# Altium integrated library Altera Cyclone IV GX update.IntLib: 117 symbols (part 31 of 38)
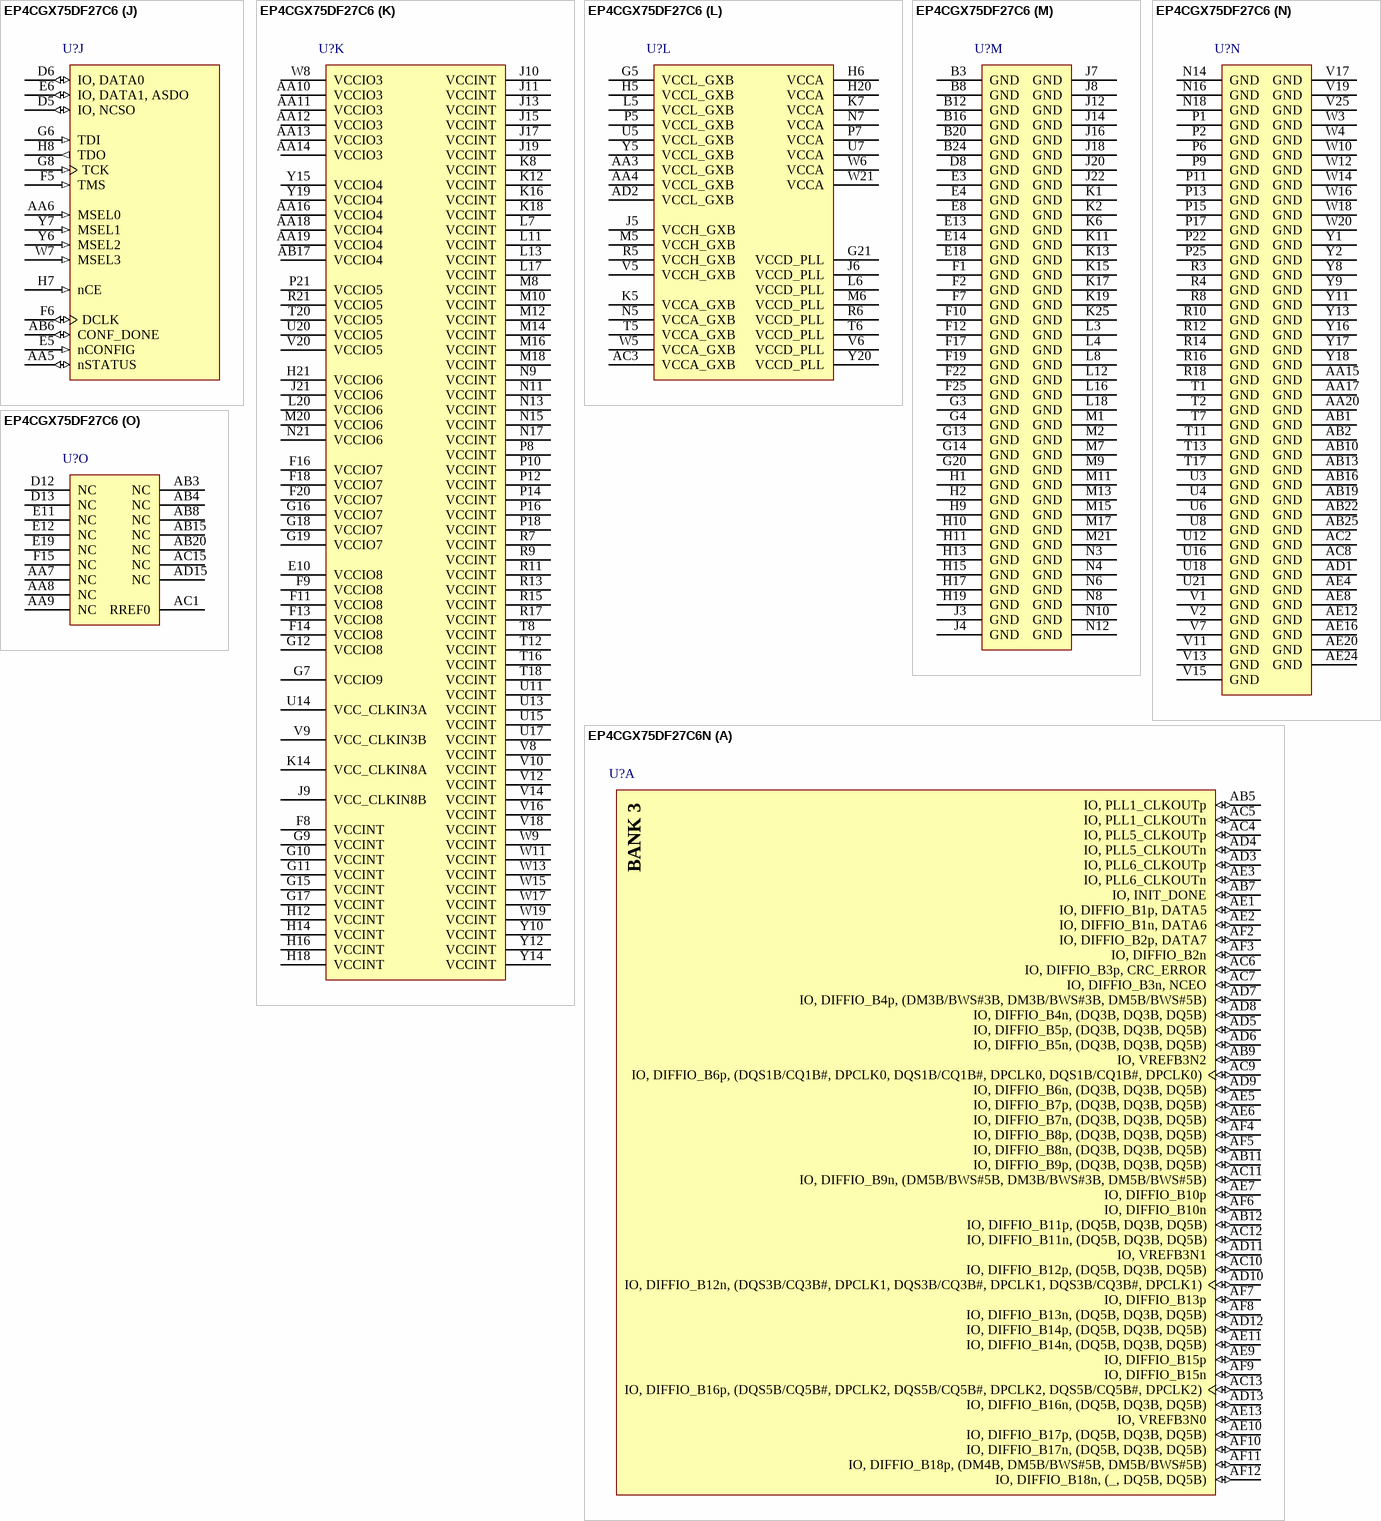
[diagram p366: symbols EP4CGX75DF27C6 to EP4CGX75DF27C6N]

## EP4CGX75DF27C6
designator U?
Cyclone IV Family FPGA, 1.2 V Core, 310 I/O Pins, 8 PLLs, 8 High-Speed Transceivers, 672-Pin FBGA, Speed Grade 6, Commercial Grade; Manufacturer: Altera; Device Group: EP4CGX75; GPIO: 310; Logic Elements (LE) (K): 73.92; NexusDeviceID: EP4CGX75DF27C6; Speed Grade: 6; DatasheetVersion: Rev. 1.8; PackageVersion: Rev. 2.0, 12/2013; PackageReference: FBGA672_A-240; PackageDescription: 672-Pin FineLine Ball-Grid Array (FBGA), Body 27 x 27 mm, Pitch 1 mm; Supplier 1: Digi-Key; Supplier Part Number 1: EP4CGX75DF27C6-ND; Supplier 2: Mouser; Supplier Part Number 2: 989-EP4CGX75DF27C6; Subcategory: Cyclone IV GX; Voltage Supply: 1.2 V Core; Mounting Technology: Surface Mount; Code_JEDEC: MS-034; PartNumber: EP4CGX75DF27C6; ComponentLink1Description: Manufacturer URL; ComponentLink1URL: http://www.altera.com/; ComponentLink2Description: Datasheet; ComponentLink2URL: http://www.altera.com/literature/hb/cyclone-iv/cyiv-53001.pdf; ComponentLink3Description: Package Specification; ComponentLink3URL: http://www.altera.com/devicepackaging/04R00419-02.pdf; ComponentLink4Description: Device Handbook URL; ComponentLink4URL: http://www.altera.com/literature/hb/cyclone-iv/cyclone4-handbook.pdf; ComponentLink5Description: Device Overview URL; ComponentLink5URL: http://www.altera.com/literature/hb/cyclone-iv/cyiv-51001.pdf; ComponentLink6Description: Device Pin-Out URL; ComponentLink6URL: http://www.altera.com/literature/dp/cyclone-iv/EP4CGX75.xls; ComponentLink7Description: Product URL; ComponentLink7URL: http://www.buyaltera.com/scripts/partsearch.dll?Detail&name=EP4CGX75DF27C6-ND
footprint ALTR-FBGA672_A-240 (BGA, 672-Balls, Body 27x27mm, Pitch 1mm)
part A pins: AB5 IO, PLL1_CLKOUTp (io), AB7 IO, INIT_DONE (io), AB9 IO, VREFB3N2 (io), AB11 IO, DIFFIO_B9p, (DQ3B, DQ3B, DQ5B) (io), AB12 IO, DIFFIO_B11p, (DQ5B, DQ3B, DQ5B) (io), AC4 IO, PLL5_CLKOUTp (io), AC5 IO, PLL1_CLKOUTn (io), AC6 IO, DIFFIO_B3p, CRC_ERROR (io), AC7 IO, DIFFIO_B3n, NCEO (io), AC9 IO, DIFFIO_B6p, (DQS1B/CQ1B#, DPCLK0, DQS1B/CQ1B#, DPCLK0, DQS1B/CQ1B#, DPCLK0) (io), AC10 IO, DIFFIO_B12p, (DQ5B, DQ3B, DQ5B) (io), AC11 IO, DIFFIO_B9n, (DM5B/BWS#5B, DM3B/BWS#3B, DM5B/BWS#5B) (io), AC12 IO, DIFFIO_B11n, (DQ5B, DQ3B, DQ5B) (io), AC13 IO, DIFFIO_B16p, (DQS5B/CQ5B#, DPCLK2, DQS5B/CQ5B#, DPCLK2, DQS5B/CQ5B#, DPCLK2) (io), AD3 IO, PLL6_CLKOUTp (io), AD4 IO, PLL5_CLKOUTn (io), AD5 IO, DIFFIO_B5p, (DQ3B, DQ3B, DQ5B) (io), AD6 IO, DIFFIO_B5n, (DQ3B, DQ3B, DQ5B) (io), AD7 IO, DIFFIO_B4p, (DM3B/BWS#3B, DM3B/BWS#3B, DM5B/BWS#5B) (io), AD8 IO, DIFFIO_B4n, (DQ3B, DQ3B, DQ5B) (io), AD9 IO, DIFFIO_B6n, (DQ3B, DQ3B, DQ5B) (io), AD10 IO, DIFFIO_B12n, (DQS3B/CQ3B#, DPCLK1, DQS3B/CQ3B#, DPCLK1, DQS3B/CQ3B#, DPCLK1) (io), AD11 IO, VREFB3N1 (io), AD12 IO, DIFFIO_B14p, (DQ5B, DQ3B, DQ5B) (io), AD13 IO, DIFFIO_B16n, (DQ5B, DQ3B, DQ5B) (io), AE1 IO, DIFFIO_B1p, DATA5 (io), AE2 IO, DIFFIO_B1n, DATA6 (io), AE3 IO, PLL6_CLKOUTn (io), AE5 IO, DIFFIO_B7p, (DQ3B, DQ3B, DQ5B) (io), AE6 IO, DIFFIO_B7n, (DQ3B, DQ3B, DQ5B) (io), AE7 IO, DIFFIO_B10p (io), AE9 IO, DIFFIO_B15p (io), AE10 IO, DIFFIO_B17p, (DQ5B, DQ3B, DQ5B) (io), AE11 IO, DIFFIO_B14n, (DQ5B, DQ3B, DQ5B) (io), AE13 IO, VREFB3N0 (io), AF2 IO, DIFFIO_B2p, DATA7 (io), AF3 IO, DIFFIO_B2n (io), AF4 IO, DIFFIO_B8p, (DQ3B, DQ3B, DQ5B) (io), AF5 IO, DIFFIO_B8n, (DQ3B, DQ3B, DQ5B) (io), AF6 IO, DIFFIO_B10n (io), AF7 IO, DIFFIO_B13p (io), AF8 IO, DIFFIO_B13n, (DQ5B, DQ3B, DQ5B) (io), AF9 IO, DIFFIO_B15n (io), AF10 IO, DIFFIO_B17n, (DQ5B, DQ3B, DQ5B) (io), AF11 IO, DIFFIO_B18p, (DM4B, DM5B/BWS#5B, DM5B/BWS#5B) (io), AF12 IO, DIFFIO_B18n, (_, DQ5B, DQ5B) (io)
part B pins: AA21 IO, PLL3_CLKOUTp (io), AA22 IO, RDN2 (io), AB14 IO, VREFB4N2 (io), AB18 IO, VREFB4N1 (io), AB21 IO, PLL3_CLKOUTn (io), AC14 IO, DIFFIO_B19p, (DQ4B, DQ5B, DQ5B) (io), AC16 IO, DIFFIO_B22p, (DQ4B, DQ5B, DQ5B) (io), AC17 IO, DIFFIO_B23p, (DQ4B, DQ5B, DQ5B) (io), AC18 IO, DIFFIO_B26p, (DQ2B, DQ5B, DQ5B) (io), AC19 IO, DIFFIO_B27p, (DQS2B/CQ3B, DPCLK4, DQS2B/CQ3B, DPCLK4, DQS2B/CQ3B, DPCLK4) (io), AC20 IO, VREFB4N0 (io), AC21 IO, DIFFIO_B35p, (_, DQ5B, DQ5B) (io), AC22 IO, DIFFIO_B34p (io), AD14 IO, DIFFIO_B19n, (DQS4B/CQ5B, DPCLK3, DQS4B/CQ5B, DPCLK3, DQS4B/CQ5B, DPCLK3) (io), AD16 IO, DIFFIO_B22n, (DQ4B, DQ5B, DQ5B) (io), AD17 IO, DIFFIO_B23n, (DM2B, DM5B/BWS#5B, DM5B/BWS#5B) (io), AD18 IO, DIFFIO_B26n, (DQ2B, DQ5B, DQ5B) (io), AD19 IO, DIFFIO_B27n (io), AD20 IO, DIFFIO_B30p, (DQ2B, DQ5B, DQ5B) (io), AD21 IO, DIFFIO_B35n, (DQ2B, DQ5B, DQ5B) (io), AD22 IO, DIFFIO_B34n, (DQS0B/CQ1B, DPCLK5, DQS0B/CQ1B, DPCLK5, DQS0B/CQ1B, DPCLK5) (io), AD23 IO, DIFFIO_B36p (io), AD24 IO, DIFFIO_B36n (io), AE14 IO, DIFFIO_B20p, (DQ4B, DQ5B, DQ5B) (io), AE15 IO, DIFFIO_B20n, (DQ4B, DQ5B, DQ5B) (io), AE17 IO, DIFFIO_B24p (io), AE18 IO, DIFFIO_B25p (io), AE19 IO, DIFFIO_B28p (io), AE21 IO, DIFFIO_B30n (io), AE22 IO, DIFFIO_B31p (io), AE23 IO, DIFFIO_B32p (io), AF15 IO, DIFFIO_B21p, (DQ4B, DQ5B, DQ5B) (io), AF16 IO, DIFFIO_B21n, (DQ4B, DQ5B, DQ5B) (io), AF17 IO, DIFFIO_B24n, (DQ2B, DQ5B, DQ5B) (io), AF18 IO, DIFFIO_B25n (io), AF19 IO, DIFFIO_B28n, (DQ2B, DQ5B, DQ5B) (io), AF20 IO, DIFFIO_B29p, (DQ2B, DQ5B, DQ5B) (io), AF21 IO, DIFFIO_B29n, (DQ2B, DQ5B, DQ5B) (io), AF22 IO, DIFFIO_B31n (io), AF23 IO, DIFFIO_B32n (io), AF24 IO, DIFFIO_B33p (io), AF25 IO, DIFFIO_B33n (io), Y21 IO, RUP2 (io)
part C pins: AA23 IO, DIFFIO_R49p, (DQS5R/CQ5R#, DPCLK6, DQS5R/CQ5R#, DPCLK6, DQS5R/CQ5R#, DPCLK6) (io), AA24 IO, DIFFIO_R49n, (DM3R/BWS#3R, DM3R/BWS#3R, DM1R/BWS#1R) (io), AA25 IO, DIFFIO_R40p, (DQS3R/CQ3R#, DPCLK7, DQS3R/CQ3R#, DPCLK7, DQS3R/CQ3R#, DPCLK7) (io), AA26 IO, DIFFIO_R37p (io), AB23 IO, DIFFIO_R48p (io), AB24 IO, DIFFIO_R48n (io), AB26 IO, DIFFIO_R40n (io), AC23 IO, DIFFIO_R47p, (DQ3R, DQ3R, DQ1R) (io), AC24 IO, DIFFIO_R47n, (DQ3R, DQ3R, DQ1R) (io), AC25 IO, DIFFIO_R41p, (DQ3R, DQ3R, DQ1R) (io), AC26 IO, DIFFIO_R41n, (DQ3R, DQ3R, DQ1R) (io), AD25 IO, DIFFIO_R45p, (DQ3R, DQ3R, DQ1R) (io), AD26 IO, DIFFIO_R45n, (DQ3R, DQ3R, DQ1R) (io), AE25 IO, DIFFIO_R46p (io), AE26 IO, DIFFIO_R46n (io), P19 IO, DIFFIO_R27p (io), P20 IO, DIFFIO_R27n (io), P23 IO, DIFFIO_R26p, (DQ1R, DQ3R, DQ1R) (io), P24 IO, DIFFIO_R26n, (DQ1R, DQ3R, DQ1R) (io), R19 IO, DIFFIO_R30p, (DQS1R/CQ1R#, DPCLK8, DQS1R/CQ1R#, DPCLK8, DQS1R/CQ1R#, DPCLK8) (io), R20 IO, DIFFIO_R30n (io), R22 IO, DIFFIO_R28p (io), R23 IO, DIFFIO_R28n (io), R24 IO, VREFB5N0 (io), R25 IO, DIFFIO_R29p, (DQ1R, DQ3R, DQ1R) (io), T19 IO, DIFFIO_R36n (io), T21 IO, DIFFIO_R39p, (DM1R/BWS#1R, DM3R/BWS#3R, DM1R/BWS#1R) (io), T22 IO, DIFFIO_R33p (io), T23 IO, DIFFIO_R33n, (DQ1R, DQ3R, DQ1R) (io), T24 IO, DIFFIO_R31p, (DQ1R, DQ3R, DQ1R) (io), T25 IO, DIFFIO_R31n (io), T26 IO, DIFFIO_R29n, (DQ1R, DQ3R, DQ1R) (io), U19 IO, DIFFIO_R36p (io), U22 IO, DIFFIO_R39n (io), U23 IO, DIFFIO_R43n, (DQ3R, DQ3R, DQ1R) (io), U24 IO, VREFB5N1 (io), U25 IO, DIFFIO_R32p, (DQ1R, DQ3R, DQ1R) (io), U26 IO, DIFFIO_R32n (io), V21 IO, DIFFIO_R44p, DEV_CLRn (io), V22 IO, DIFFIO_R43p, (DQ3R, DQ3R, DQ1R) (io), V23 IO, DIFFIO_R42p (io), V24 IO, DIFFIO_R42n, (DQ3R, DQ3R, DQ1R) (io), V26 IO, DIFFIO_R34n, (DQ1R, DQ3R, DQ1R) (io), W22 IO, DIFFIO_R44n, DEV_OE (io), W23 IO, VREFB5N2 (io), W24 IO, DIFFIO_R35p (io), W25 IO, DIFFIO_R35n (io), W26 IO, DIFFIO_R34p (io), Y22 IO, RUP3 (io), Y23 IO, RDN3 (io), Y24 IO, DIFFIO_R38p, (DQ1R, DQ3R, DQ1R) (io), Y25 IO, DIFFIO_R38n (io), Y26 IO, DIFFIO_R37n (io)
part D pins: B25 IO, DIFFIO_R3p, (DQ2R, DQ1R, DQ1R) (io), B26 IO, DIFFIO_R3n, (DQ2R, DQ1R, DQ1R) (io), C24 IO, DIFFIO_R2n (io), C25 IO, DIFFIO_R4p (io), C26 IO, DIFFIO_R4n (io), D24 IO, DIFFIO_R2p, (DQS4R/CQ5R, DPCLK11, DQS4R/CQ5R, DPCLK11, DQS4R/CQ5R, DPCLK11) (io), D25 IO, DIFFIO_R9p (io), D26 IO, DIFFIO_R9n, (DQS2R/CQ3R, DPCLK10, DQS2R/CQ3R, DPCLK10, DQS2R/CQ3R, DPCLK10) (io), E24 IO, DIFFIO_R5n (io), E25 IO, DIFFIO_R10p, (DQ2R, DQ1R, DQ1R) (io), E26 IO, DIFFIO_R10n, (DQ2R, DQ1R, DQ1R) (io), F21 IO, DIFFIO_R1p (io), F23 IO, DIFFIO_R6p (io), F24 IO, DIFFIO_R5p (io), F26 IO, DIFFIO_R12n (io), G22 IO, DIFFIO_R1n (io), G23 IO, VREFB6N0 (io), G24 IO, DIFFIO_R6n (io), G25 IO, DIFFIO_R8n (io), G26 IO, DIFFIO_R12p, (DQ2R, DQ1R, DQ1R) (io), H22 IO, DIFFIO_R7p (io), H23 IO, DIFFIO_R7n (io), H24 IO, DIFFIO_R8p (io), H25 IO, DIFFIO_R14p, (DM2R, DM1R/BWS#1R, DM1R/BWS#1R) (io), H26 IO, DIFFIO_R14n (io), J23 IO, DIFFIO_R11n, (DQ2R, DQ1R, DQ1R) (io), J24 IO, VREFB6N1 (io), J25 IO, DIFFIO_R15n (io), J26 IO, DIFFIO_R17p (io), K20 IO, DIFFIO_R16p (io), K21 IO, DIFFIO_R13p, (DQ2R, DQ1R, DQ1R) (io), K22 IO, DIFFIO_R13n, (_, DQ1R, DQ1R) (io), K23 IO, DIFFIO_R11p, (DQ2R, DQ1R, DQ1R) (io), K24 IO, DIFFIO_R15p, (_, DQ1R, DQ1R) (io), K26 IO, DIFFIO_R17n (io), L19 IO, DIFFIO_R22n, (DQS0R/CQ1R, DPCLK9, DQS0R/CQ1R, DPCLK9, DQS0R/CQ1R, DPCLK9) (io), L21 IO, DIFFIO_R16n, (DQ0R, DQ1R, DQ1R) (io), L22 IO, DIFFIO_R20n (io), L23 IO, DIFFIO_R18p, (DQ0R, DQ1R, DQ1R) (io), L24 IO, DIFFIO_R18n (io), L25 IO, DIFFIO_R19p, (DQ0R, DQ1R, DQ1R) (io), L26 IO, DIFFIO_R19n (io), M19 IO, DIFFIO_R22p (io), M22 IO, DIFFIO_R20p, (DQ0R, DQ1R, DQ1R) (io), M23 IO, VREFB6N2 (io), M24 IO, DIFFIO_R23n, (DQ0R, DQ1R, DQ1R) (io), M25 IO, DIFFIO_R21p, (DQ0R, DQ1R, DQ1R) (io), M26 IO, DIFFIO_R21n (io), N19 IO, DIFFIO_R25p, (DQ0R, DQ1R, DQ1R) (io), N20 IO, DIFFIO_R25n, (DM0R, DM1R/BWS#1R, DM1R/BWS#1R) (io), N22 IO, DIFFIO_R24p (io), N23 IO, DIFFIO_R24n (io), N24 IO, DIFFIO_R23p, (DQ0R, DQ1R, DQ1R) (io)
part E pins: A15 IO, DIFFIO_T22n, (DQ4T, DQ5T, DQ5T) (io), A16 IO, DIFFIO_T24n, (DQ4T, DQ5T, DQ5T) (io), A17 IO, DIFFIO_T24p (io), A18 IO, DIFFIO_T27n (io), A19 IO, DIFFIO_T27p, (DQS2T/CQ3T, DPCLK13, DQS2T/CQ3T, DPCLK13, DQS2T/CQ3T, DPCLK13) (io), A20 IO, DIFFIO_T30n (io), A21 IO, DIFFIO_T30p, (DQ2T, DQ5T, DQ5T) (io), A22 IO, DIFFIO_T31n, (DQ2T, DQ5T, DQ5T) (io), A23 IO, DIFFIO_T36n (io), A24 IO, DIFFIO_T35n, (DQS0T/CQ1T, DPCLK12, DQS0T/CQ1T, DPCLK12, DQS0T/CQ1T, DPCLK12) (io), A25 IO, DIFFIO_T35p, (DQ2T, DQ5T, DQ5T) (io), B15 IO, DIFFIO_T22p (io), B17 IO, DIFFIO_T23n, (DQ4T, DQ5T, DQ5T) (io), B18 IO, DIFFIO_T25n (io), B19 IO, DIFFIO_T29n (io), B21 IO, DIFFIO_T31p, (DQ2T, DQ5T, DQ5T) (io), B22 IO, DIFFIO_T33n, (DQ2T, DQ5T, DQ5T) (io), B23 IO, DIFFIO_T36p (io), C14 IO, DIFFIO_T20n, (_, DQ5T, DQ5T) (io), C15 IO, DIFFIO_T20p, (DM4T, DM5T/BWS#5T, DM5T/BWS#5T) (io), C16 IO, DIFFIO_T23p, (DQ4T, DQ5T, DQ5T) (io), C17 IO, DIFFIO_T25p, (DQ4T, DQ5T, DQ5T) (io), C18 IO, DIFFIO_T28n, (DM2T, DM5T/BWS#5T, DM5T/BWS#5T) (io), C19 IO, DIFFIO_T29p, (_, DQ5T, DQ5T) (io), C20 IO, DIFFIO_T32n, (DQ2T, DQ5T, DQ5T) (io), C21 IO, DIFFIO_T33p (io), C22 IO, DIFFIO_T37n, (DQ2T, DQ5T, DQ5T) (io), C23 IO (io), D15 IO, DIFFIO_T21n, (DQ4T, DQ5T, DQ5T) (io), D16 IO, VREFB7N2 (io), D17 IO, DIFFIO_T26n, (DQ4T, DQ5T, DQ5T) (io), D18 IO, DIFFIO_T28p (io), D19 IO, DIFFIO_T32p (io), D20 IO, DIFFIO_T34n (io), D21 IO, DIFFIO_T34p (io), D22 IO, DIFFIO_T37p, (DQ2T, DQ5T, DQ5T) (io), D23 IO, RDN4 (io), E15 IO, DIFFIO_T21p, (DQS4T/CQ5T, DPCLK14, DQS4T/CQ5T, DPCLK14, DQS4T/CQ5T, DPCLK14) (io), E16 IO, DIFFIO_T26p, (DQ4T, DQ5T, DQ5T) (io), E17 IO, VREFB7N1 (io), E20 IO, VREFB7N0 (io), E21 IO, PLL4_CLKOUTn (io), E22 IO, PLL4_CLKOUTp (io), E23 IO, RUP4 (io)
part F pins: A2 IO, DIFFIO_T8n, (DQ3T, DQ3T, DQ5T) (io), A3 IO, DIFFIO_T8p (io), A4 IO, DIFFIO_T10n, (DQS3T/CQ3T#, DPCLK16, DQS3T/CQ3T#, DPCLK16, DQS3T/CQ3T#, DPCLK16) (io), A5 IO, DIFFIO_T12n (io), A6 IO, DIFFIO_T14n, (DQ5T, DQ3T, DQ5T) (io), A7 IO, DIFFIO_T14p, (DQ5T, DQ3T, DQ5T) (io), A8 IO, DIFFIO_T15n, (DQ5T, DQ3T, DQ5T) (io), A9 IO, DIFFIO_T15p (io), A10 IO, DIFFIO_T16n, (DQ5T, DQ3T, DQ5T) (io), A11 IO, DIFFIO_T17n, (DQ5T, DQ3T, DQ5T) (io), A12 IO, DIFFIO_T19n, (DQS5T/CQ5T#, DPCLK15, DQS5T/CQ5T#, DPCLK15, DQS5T/CQ5T#, DPCLK15) (io), A13 IO, DIFFIO_T19p, (DQ5T, DQ3T, DQ5T) (io), B1 IO, DIFFIO_T5n (io), B2 IO, DIFFIO_T5p (io), B4 IO, DIFFIO_T10p, (DQ3T, DQ3T, DQ5T) (io), B5 IO, DIFFIO_T12p (io), B6 IO, DIFFIO_T11n, (DM5T/BWS#5T, DM3T/BWS#3T, DM5T/BWS#5T) (io), B7 IO, DIFFIO_T11p (io), B9 IO, DIFFIO_T9n (io), B10 IO, DIFFIO_T16p, (DQ5T, DQ3T, DQ5T) (io), B11 IO, DIFFIO_T17p, (DQ5T, DQ3T, DQ5T) (io), B13 IO, DIFFIO_T18n (io), C1 IO, PLL7_CLKOUTn (io), C2 IO, DIFFIO_T3n, (DQ3T, DQ3T, DQ5T) (io), C3 IO, DIFFIO_T4n, (DQ3T, DQ3T, DQ5T) (io), C4 IO, DIFFIO_T7n, (DQ3T, DQ3T, DQ5T) (io), C5 IO, DIFFIO_T7p (io), C6 IO, DIFFIO_T2n, DATA4, (DM3T/BWS#3T, DM3T/BWS#3T, DM5T/BWS#5T) (io), C7 IO, DIFFIO_T2p, DATA3 (io), C8 IO, DIFFIO_T1n, DATA2 (io), C9 IO, DIFFIO_T1p (io), C10 IO, DIFFIO_T9p, (DQ3T, DQ3T, DQ5T) (io), C11 IO, DIFFIO_T13n (io), C12 IO, DIFFIO_T13p, (DQ5T, DQ3T, DQ5T) (io), C13 IO, DIFFIO_T18p (io), D1 IO, PLL7_CLKOUTp (io), D2 IO, DIFFIO_T3p, (DQ3T, DQ3T, DQ5T) (io), D3 IO, DIFFIO_T4p, (DQ3T, DQ3T, DQ5T) (io), D4 IO, CLKUSR (io), D7 IO, PLL2_CLKOUTn (io), D9 IO, DIFFIO_T6n, (DQ3T, DQ3T, DQ5T) (io), D10 IO, DIFFIO_T6p, (DQS1T/CQ1T#, DPCLK17, DQS1T/CQ1T#, DPCLK17, DQS1T/CQ1T#, DPCLK17) (io), D11 IO, VREFB8N1 (io), D14 IO, VREFB8N0 (io), E1 IO, PLL8_CLKOUTn (io), E2 IO, PLL8_CLKOUTp (io), E7 IO, PLL2_CLKOUTp (io), E9 IO, VREFB8N2 (io)
part G pins: A14 CLKIO8, DIFFCLK_5n (in), AF13 CLKIO14, DIFFCLK_6p (in), AF14 CLKIO15, DIFFCLK_6n (in), B14 CLKIO9, DIFFCLK_5p (in), K9 REFCLK5n, DIFFCLK_9n (in), K10 REFCLK4n, DIFFCLK_8n (in), L9 REFCLK5p, DIFFCLK_9p, CLKIO19 (in), L10 REFCLK4p, DIFFCLK_8p, CLKIO17 (in), L14 CLKIO10, DIFFCLK_4n, REFCLK3n (in), L15 CLKIO11, DIFFCLK_4p, REFCLK3p (in), N25 CLKIO7, DIFFCLK_3p (in), N26 CLKIO6, DIFFCLK_3n (in), P26 CLKIO4, DIFFCLK_2n (in), R26 CLKIO5, DIFFCLK_2p (in), T9 REFCLK0p, DIFFCLK_0p, CLKIO20 (in), T10 REFCLK1p, DIFFCLK_1p, CLKIO22 (in), T14 CLKIO12, DIFFCLK_7p, REFCLK2p (in), T15 CLKIO13, DIFFCLK_7n, REFCLK2n (in), U9 REFCLK0n, DIFFCLK_0n (in), U10 REFCLK1n, DIFFCLK_1n (in)
part H pins: AA1 GXB_RX0n (in), AA2 GXB_RX0p (in), P3 GXB_TX3n (out), P4 GXB_TX3p (out), R1 GXB_RX3n (in), R2 GXB_RX3p (in), T3 GXB_TX2n (out), T4 GXB_TX2p (out), U1 GXB_RX2n (in), U2 GXB_RX2p (in), V3 GXB_TX1n (out), V4 GXB_TX1p (out), W1 GXB_RX1n (in), W2 GXB_RX1p (in), Y3 GXB_TX0n (out), Y4 GXB_TX0p (out)
part I pins: F3 GXB_TX7n (out), F4 GXB_TX7p (out), G1 GXB_RX7n (in), G2 GXB_RX7p (in), H3 GXB_TX6n (out), H4 GXB_TX6p (out), J1 GXB_RX6n (in), J2 GXB_RX6p (in), K3 GXB_TX5n (out), K4 GXB_TX5p (out), L1 GXB_RX5n (in), L2 GXB_RX5p (in), M3 GXB_TX4n (out), M4 GXB_TX4p (out), N1 GXB_RX4n (in), N2 GXB_RX4p (in)
part J pins: AA5 nSTATUS (io), AA6 MSEL0 (in), AB6 CONF_DONE (io), D5 IO, NCSO (io), D6 IO, DATA0 (io), E5 nCONFIG (in), E6 IO, DATA1, ASDO (io), F5 TMS (in), F6 DCLK (io), G6 TDI (in), G8 TCK (in), H7 nCE (in), H8 TDO (out), W7 MSEL3 (in), Y6 MSEL2 (in), Y7 MSEL1 (in)
part K pins: AA10 VCCIO3 (power), AA11 VCCIO3 (power), AA12 VCCIO3 (power), AA13 VCCIO3 (power), AA14 VCCIO3 (power), AA16 VCCIO4 (power), AA18 VCCIO4 (power), AA19 VCCIO4 (power), AB17 VCCIO4 (power), E10 VCCIO8 (power), F8 VCCINT (power), F9 VCCIO8 (power), F11 VCCIO8 (power), F13 VCCIO8 (power), F14 VCCIO8 (power), F16 VCCIO7 (power), F18 VCCIO7 (power), F20 VCCIO7 (power), G7 VCCIO9 (power), G9 VCCINT (power), G10 VCCINT (power), G11 VCCINT (power), G12 VCCIO8 (power), G15 VCCINT (power), G16 VCCIO7 (power), G17 VCCINT (power), G18 VCCIO7 (power), G19 VCCIO7 (power), H12 VCCINT (power), H14 VCCINT (power), H16 VCCINT (power), H18 VCCINT (power), H21 VCCIO6 (power), J9 VCC_CLKIN8B (power), J10 VCCINT (power), J11 VCCINT (power), J13 VCCINT (power), J15 VCCINT (power), J17 VCCINT (power), J19 VCCINT (power), J21 VCCIO6 (power), K8 VCCINT (power), K12 VCCINT (power), K14 VCC_CLKIN8A (power), K16 VCCINT (power), K18 VCCINT (power), L7 VCCINT (power), L11 VCCINT (power), L13 VCCINT (power), L17 VCCINT (power), L20 VCCIO6 (power), M8 VCCINT (power), M10 VCCINT (power), M12 VCCINT (power), M14 VCCINT (power), M16 VCCINT (power), M18 VCCINT (power), M20 VCCIO6 (power), N9 VCCINT (power), N11 VCCINT (power), N13 VCCINT (power), N15 VCCINT (power), N17 VCCINT (power), N21 VCCIO6 (power), P8 VCCINT (power), P10 VCCINT (power), P12 VCCINT (power), P14 VCCINT (power), P16 VCCINT (power), P18 VCCINT (power), P21 VCCIO5 (power), R7 VCCINT (power), R9 VCCINT (power), R11 VCCINT (power), R13 VCCINT (power), R15 VCCINT (power), R17 VCCINT (power), R21 VCCIO5 (power), T8 VCCINT (power), T12 VCCINT (power), T16 VCCINT (power), T18 VCCINT (power), T20 VCCIO5 (power), U11 VCCINT (power), U13 VCCINT (power), U14 VCC_CLKIN3A (power), U15 VCCINT (power), U17 VCCINT (power), U20 VCCIO5 (power), V8 VCCINT (power), V9 VCC_CLKIN3B (power), V10 VCCINT (power), V12 VCCINT (power), V14 VCCINT (power), V16 VCCINT (power), V18 VCCINT (power), V20 VCCIO5 (power), W8 VCCIO3 (power), W9 VCCINT (power), W11 VCCINT (power), W13 VCCINT (power), W15 VCCINT (power), W17 VCCINT (power), W19 VCCINT (power), Y10 VCCINT (power), Y12 VCCINT (power), Y14 VCCINT (power), Y15 VCCIO4 (power), Y19 VCCIO4 (power)
part L pins: AA3 VCCL_GXB (power), AA4 VCCL_GXB (power), AC3 VCCA_GXB (power), AD2 VCCL_GXB (power), G5 VCCL_GXB (power), G21 VCCD_PLL (power), H5 VCCL_GXB (power), H6 VCCA (power), H20 VCCA (power), J5 VCCH_GXB (power), J6 VCCD_PLL (power), K5 VCCA_GXB (power), K7 VCCA (power), L5 VCCL_GXB (power), L6 VCCD_PLL (power), M5 VCCH_GXB (power), M6 VCCD_PLL (power), N5 VCCA_GXB (power), N7 VCCA (power), P5 VCCL_GXB (power), P7 VCCA (power), R5 VCCH_GXB (power), R6 VCCD_PLL (power), T5 VCCA_GXB (power), T6 VCCD_PLL (power), U5 VCCL_GXB (power), U7 VCCA (power), V5 VCCH_GXB (power), V6 VCCD_PLL (power), W5 VCCA_GXB (power), W6 VCCA (power), W21 VCCA (power), Y5 VCCL_GXB (power), Y20 VCCD_PLL (power)
part M pins: B3 GND (power), B8 GND (power), B12 GND (power), B16 GND (power), B20 GND (power), B24 GND (power), D8 GND (power), E3 GND (power), E4 GND (power), E8 GND (power), E13 GND (power), E14 GND (power), E18 GND (power), F1 GND (power), F2 GND (power), F7 GND (power), F10 GND (power), F12 GND (power), F17 GND (power), F19 GND (power), F22 GND (power), F25 GND (power), G3 GND (power), G4 GND (power), G13 GND (power), G14 GND (power), G20 GND (power), H1 GND (power), H2 GND (power), H9 GND (power), H10 GND (power), H11 GND (power), H13 GND (power), H15 GND (power), H17 GND (power), H19 GND (power), J3 GND (power), J4 GND (power), J7 GND (power), J8 GND (power), J12 GND (power), J14 GND (power), J16 GND (power), J18 GND (power), J20 GND (power), J22 GND (power), K1 GND (power), K2 GND (power), K6 GND (power), K11 GND (power), K13 GND (power), K15 GND (power), K17 GND (power), K19 GND (power), K25 GND (power), L3 GND (power), L4 GND (power), L8 GND (power), L12 GND (power), L16 GND (power), L18 GND (power), M1 GND (power), M2 GND (power), M7 GND (power), M9 GND (power), M11 GND (power), M13 GND (power), M15 GND (power), M17 GND (power), M21 GND (power), N3 GND (power), N4 GND (power), N6 GND (power), N8 GND (power), N10 GND (power), N12 GND (power)
part N pins: AA15 GND (power), AA17 GND (power), AA20 GND (power), AB1 GND (power), AB2 GND (power), AB10 GND (power), AB13 GND (power), AB16 GND (power), AB19 GND (power), AB22 GND (power), AB25 GND (power), AC2 GND (power), AC8 GND (power), AD1 GND (power), AE4 GND (power), AE8 GND (power), AE12 GND (power), AE16 GND (power), AE20 GND (power), AE24 GND (power), N14 GND (power), N16 GND (power), N18 GND (power), P1 GND (power), P2 GND (power), P6 GND (power), P9 GND (power), P11 GND (power), P13 GND (power), P15 GND (power), P17 GND (power), P22 GND (power), P25 GND (power), R3 GND (power), R4 GND (power), R8 GND (power), R10 GND (power), R12 GND (power), R14 GND (power), R16 GND (power), R18 GND (power), T1 GND (power), T2 GND (power), T7 GND (power), T11 GND (power), T13 GND (power), T17 GND (power), U3 GND (power), U4 GND (power), U6 GND (power), U8 GND (power), U12 GND (power), U16 GND (power), U18 GND (power), U21 GND (power), V1 GND (power), V2 GND (power), V7 GND (power), V11 GND (power), V13 GND (power), V15 GND (power), V17 GND (power), V19 GND (power), V25 GND (power), W3 GND (power), W4 GND (power), W10 GND (power), W12 GND (power), W14 GND (power), W16 GND (power), W18 GND (power), W20 GND (power), Y1 GND (power), Y2 GND (power), Y8 GND (power), Y9 GND (power), Y11 GND (power), Y13 GND (power), Y16 GND (power), Y17 GND (power), Y18 GND (power)
part O pins: AA7 NC, AA8 NC, AA9 NC, AB3 NC, AB4 NC, AB8 NC, AB15 NC, AB20 NC, AC1 RREF0, AC15 NC, AD15 NC, D12 NC, D13 NC, E11 NC, E12 NC, E19 NC, F15 NC
part A text: BANK 3
part B text: BANK 4
part C text: BANK 5
part D text: BANK 6
part E text: BANK 7
part F text: BANK 8

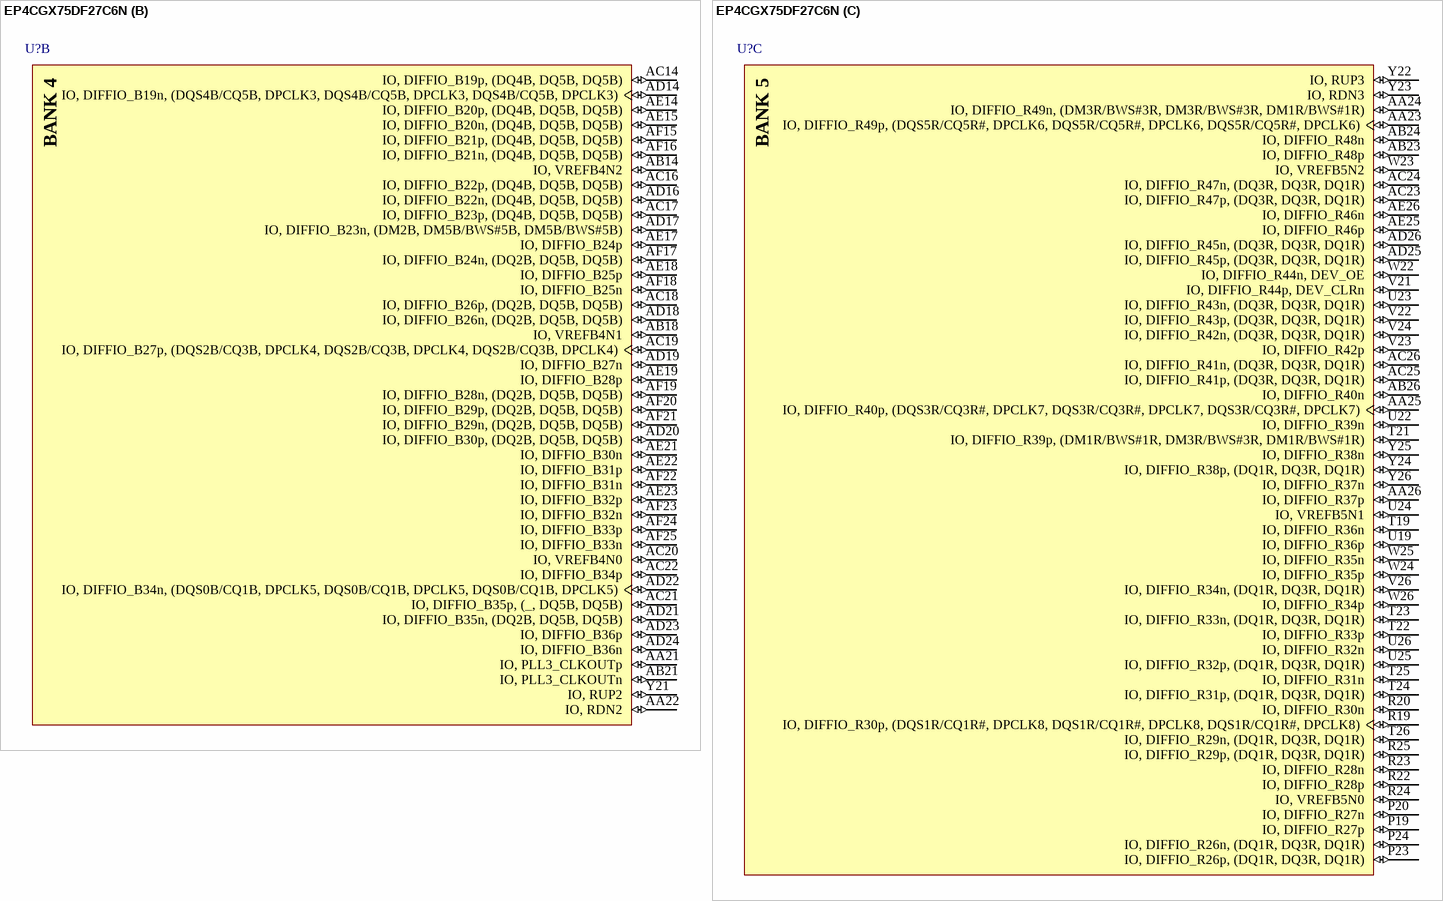
[diagram p112: symbol EP4CGX75DF27C6N]

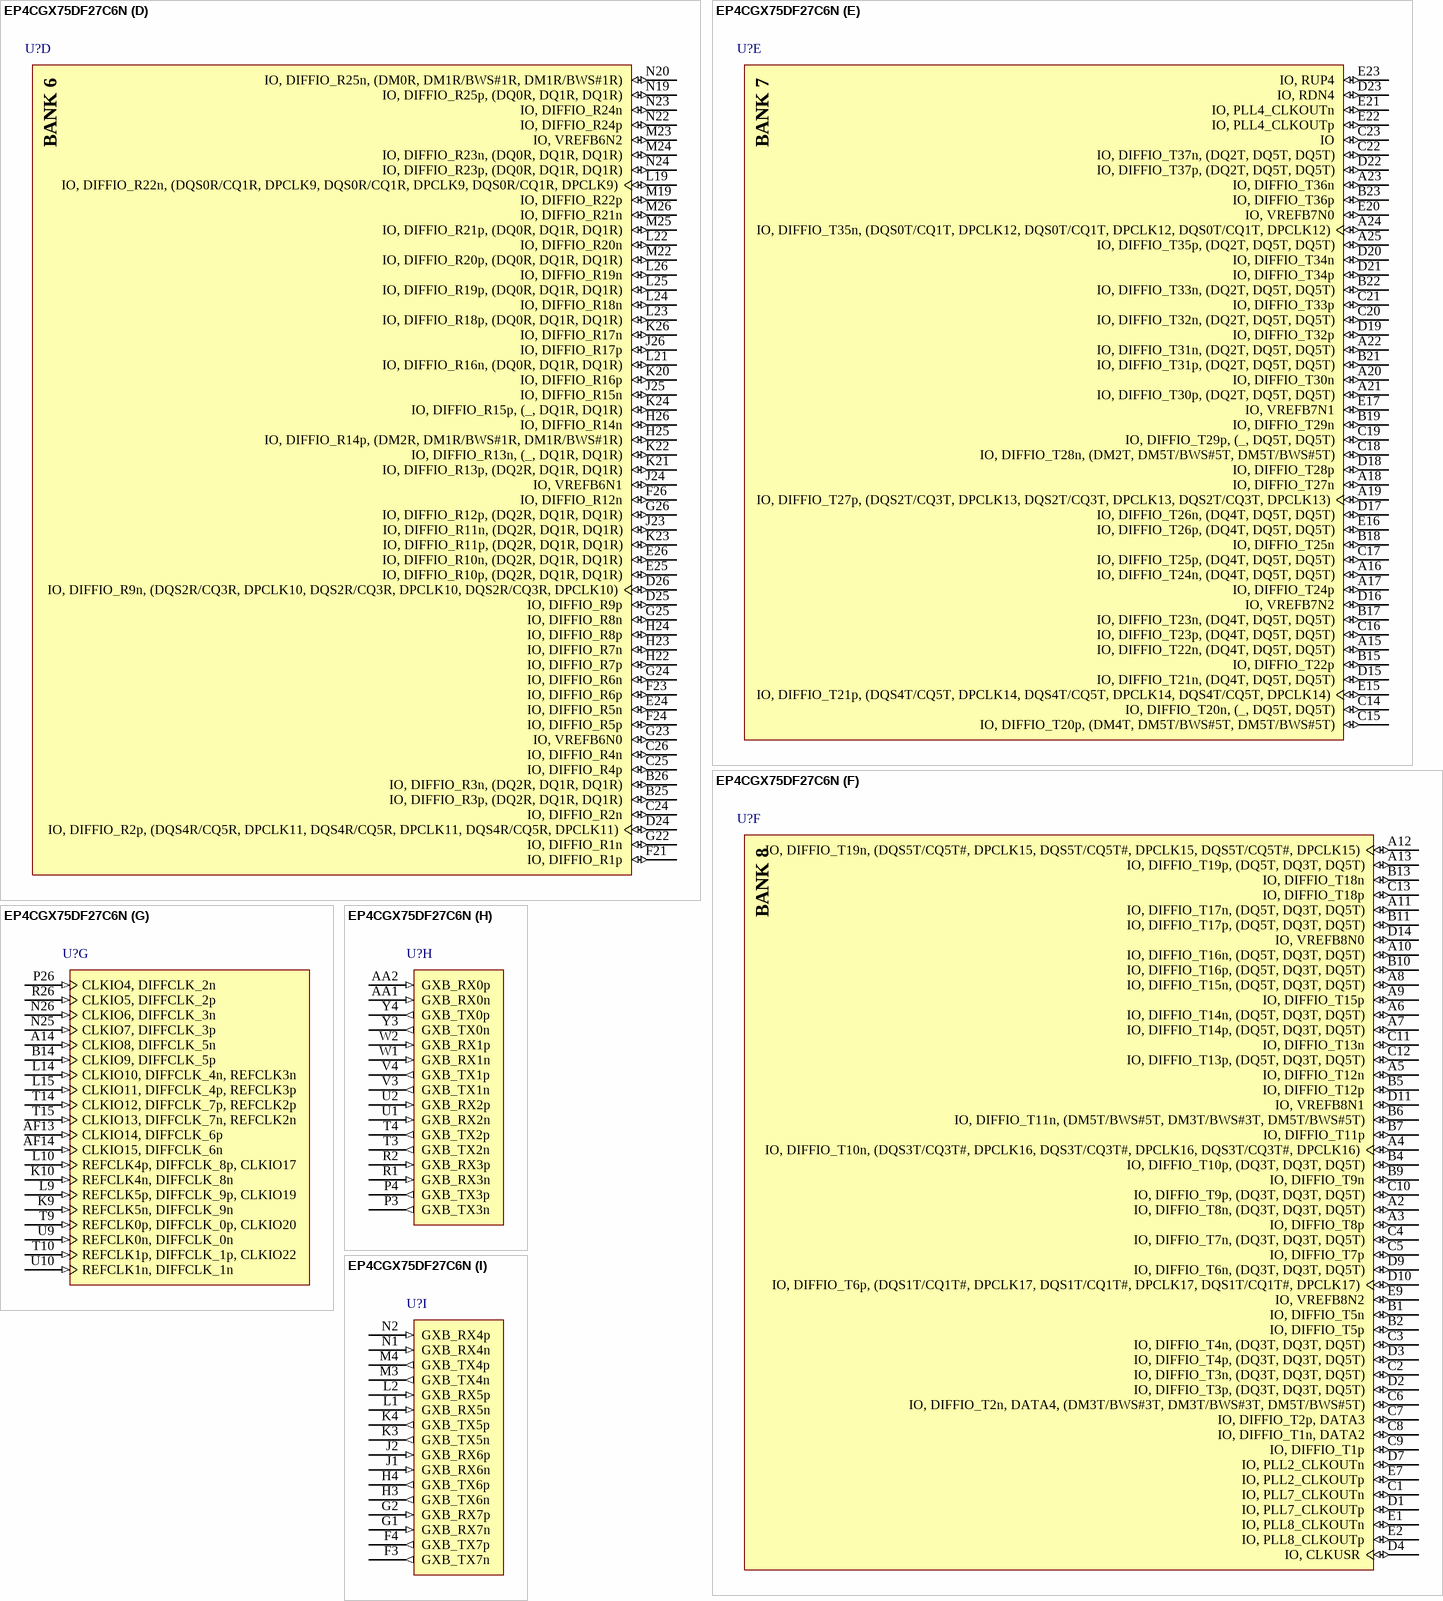
[diagram p113: symbol EP4CGX75DF27C6N]

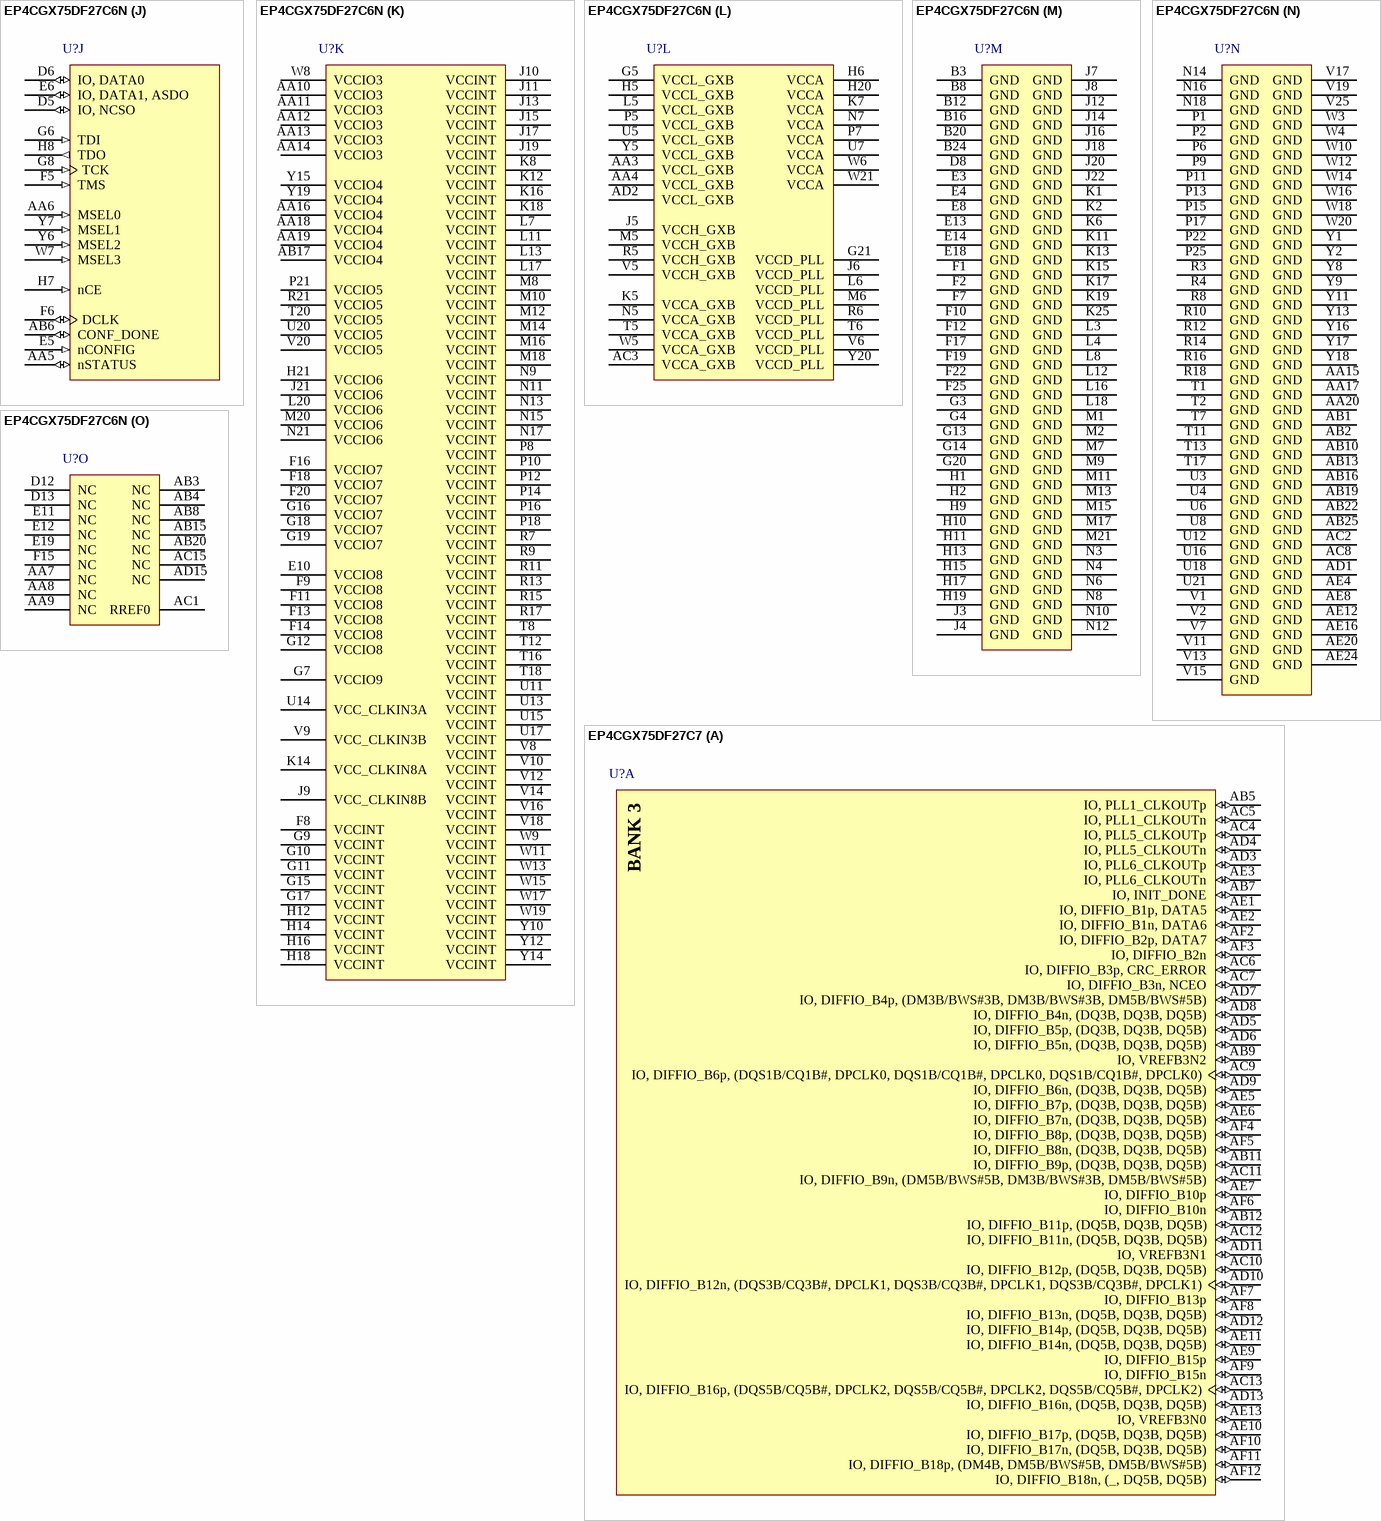
[diagram p114: symbols EP4CGX75DF27C6N to EP4CGX75DF27C7]